# EAGLE library part UCC27532 (library kicker)
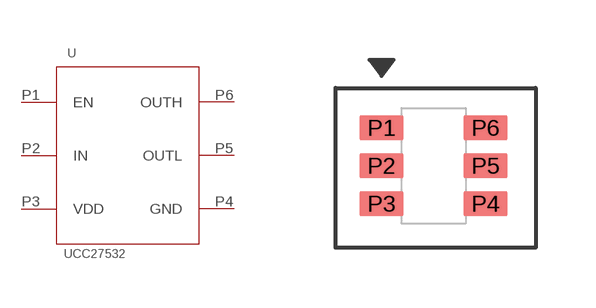
[diagram p4: symbol with the pads of SOT23-6; footprint SOT23-6]

Designator prefix U

## UCC27532 (MF: Texas Instruments; MPN: UCC27532DBVT)  [SOT23-6]
P1  EN
P2  IN
P3  VDD
P4  GND
P5  OUTL
P6  OUTH

## Footprint SOT23-6 (pad centres in mm)
smd 1.1 x 0.6: P1 -1.35,1; P2 -1.35,0.05; P3 -1.35,-0.9; P4 1.25,-0.9; P5 1.25,0.05; P6 1.25,1